# Altium footprint library WE-HCI_7040.PcbLib: 1 footprints
Each footprint in its own frame and in the unit in brackets; x right, y up, seen from the top. Pads: shape width x height; smd on the part's side, far side on the other; paste and mask are expansions set on the pad; w line width, h text height; cw(c..) or ccw(c..) is an arc to the next point about the centre after c.
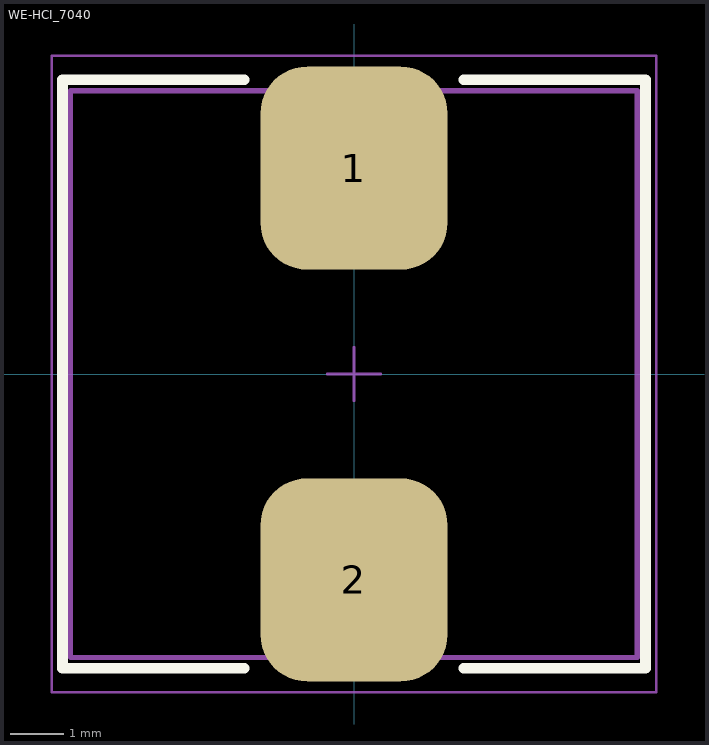
[diagram p0: the footprint, top view; thin cyan lines are the x and y axes]

## WE-HCI_7040 [mm]
pads (2):
  rrect50% 3.5x3.8 smd: 1(0,3.85) 2(0,-3.85)
Top Overlay:
  lines w0.2: -2.05,-5.5 -5.45,-5.5 -5.45,5.5 -2.05,5.5 ; 2.05,-5.5 5.45,-5.5 5.45,5.5 2.05,5.5
Top Assembly:
  lines w0.1: -5.3,-5.3 -5.3,5.3 5.3,5.3 5.3,-5.3 -5.3,-5.3
Top Courtyard:
  lines w0.05: -0.5,0 0.5,0 ; 0,-0.5 0,0.5 ; -5.65,-5.95 -5.65,5.95 5.65,5.95 5.65,-5.95 -5.65,-5.95
3D body "744323xxx.stp": height 2.81, standoff 0.01, extent -5.3,-5.3 5.3,5.3